# Altium integrated library Analog Devices Operational Amplifiers.IntLib: 2102 symbols (part 15 of 70)
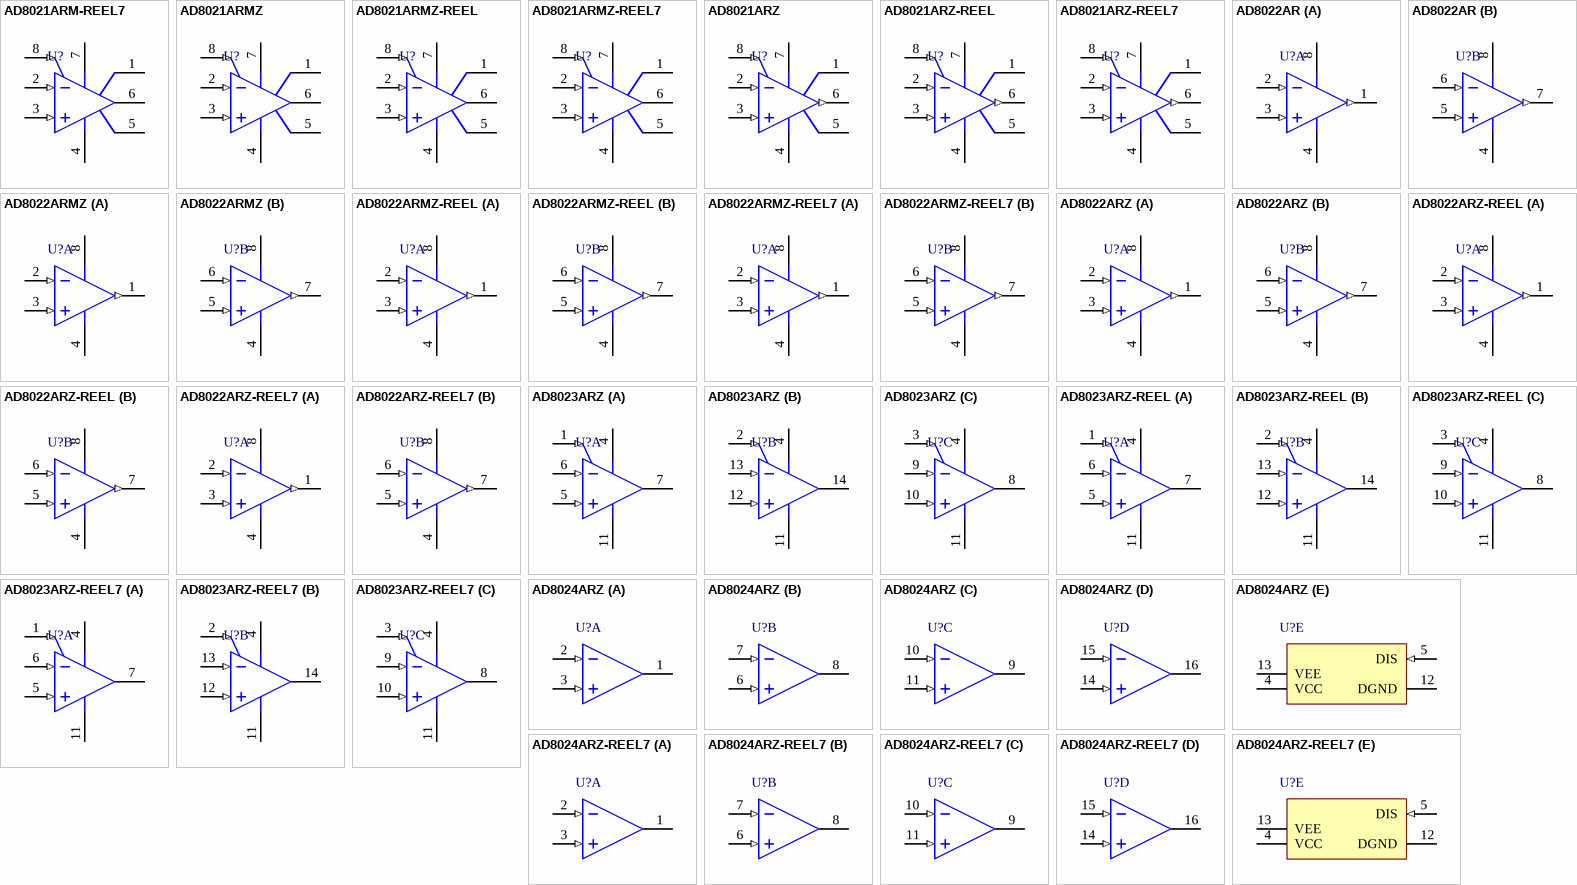
[diagram p128: symbols AD8021ARM-REEL7 to AD8024ARZ-REEL7]

## AD8024ARZ-REEL7
designator U?
Quad Channel Low Power Operational Amplifier, 200 MHz BW, 390 V/us SR, Industrial, 16-pin SOIC (R-16), Reel; Generic Part Number: AD8024; Manufacturer: Analog Devices; PartNumber: AD8024ARZ-REEL7; Amplifiers Per Package: 4; Input Bias Current: 1uA; Input Offset Voltage: 2mV; Iq/Amp: 17mA; Small Signal Bandwidth: 200MHz; V Span Max: 24V; V Span Min: 5V; DatasheetVersion: Rev. C; PackageVersion: 060606-A; PackageReference: R-16; PackageDescription: 16-Pin Standard Small Outline Package, Body 9.9 x 3.9 mm, Pitch 1.27 mm; Supplier 1: Digi-Key; Supplier Part Number 1: AD8024ARZ-REEL7-ND; Slew Rate: 390V/us; Mounting Technology: Surface Mount; Code_JEDEC: MS-012-AC; ComponentLink1Description: Manufacturer URL; ComponentLink1URL: http://www.analog.com/en/index.html; ComponentLink2Description: Datasheet; ComponentLink2URL: http://www.analog.com/static/imported-files/data_sheets/AD8024.pdf; ComponentLink3Description: Package Specification; ComponentLink3URL: http://www.analog.com/static/imported-files/packages/PKG_PDF/SOIC_Narrow%20(R)/R_16.pdf
footprint ADI-R-16_N (SOIC, 16-Leads, Body 9.9x3.9mm, Pitch 1.27mm, IPC Medium Density)
footprint ADI-R-16_L (SOIC, 16-Leads, Body 9.9x3.9mm, Pitch 1.27mm, IPC High Density)
footprint ADI-R-16_M (SOIC, 16-Leads, Body 9.9x3.9mm, Pitch 1.27mm,IPC Low Density)
part A pins: 1 OUT A (hiz), 2 -IN A (in), 3 +IN A (in)
part B pins: 6 +IN B (in), 7 -IN B (in), 8 OUT B (hiz)
part C pins: 9 OUT C (hiz), 10 -IN C (in), 11 +IN C (in)
part D pins: 14 +IN D (in), 15 -IN D (in), 16 OUT D (hiz)
part E pins: 4 VCC (power), 5 DIS (in), 12 DGND (power), 13 VEE (power)

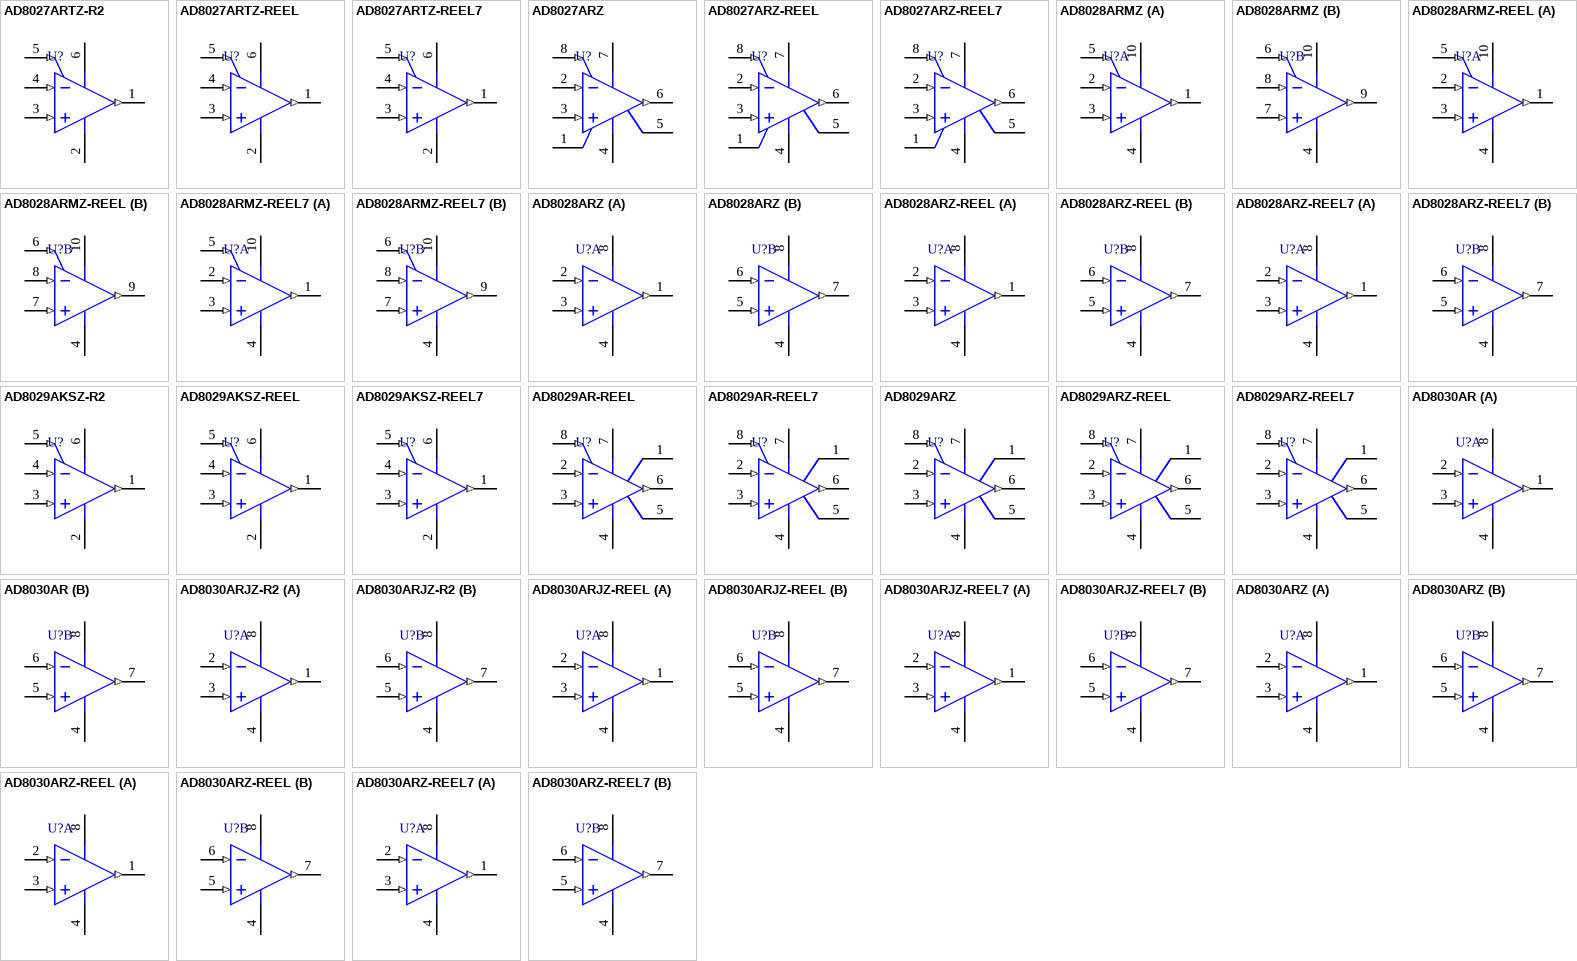
[diagram p22: symbols AD8027ARTZ-R2 to AD8030ARZ-REEL7]

## AD8027ARTZ-R2
designator U?
Single Channel Low Power Operational Amplifier, 190 MHz BW, 100 V/us SR, Industrial, 6-pin SOT23 (RJ-6), Reel; Generic Part Number: AD8027; Manufacturer: Analog Devices; PartNumber: AD8027ARTZ-R2; Amplifiers Per Package: 1; Input Bias Current: 3.8uA; Input Offset Voltage: 200uV; Iq/Amp: 8.5mA; Small Signal Bandwidth: 190MHz; V Span Max: 12V; V Span Min: 2.7V; DatasheetVersion: Rev. C; PackageVersion: 121608-A; PackageReference: RJ-6; PackageDescription: 6-Pin Small Outline Transistor Package, Body 2.9 x 1.6 mm, Pitch 0.95 mm; Supplier 1: Digi-Key; Supplier Part Number 1: AD8027ARTZ-R2CT-ND; Slew Rate: 100V/us; Mounting Technology: Surface Mount; Code_JEDEC: MO-178-AB; ComponentLink1Description: Manufacturer URL; ComponentLink1URL: http://www.analog.com/en/index.html; ComponentLink2Description: Datasheet; ComponentLink2URL: http://www.analog.com/static/imported-files/data_sheets/AD8027_8028.pdf; ComponentLink3Description: Package Specification; ComponentLink3URL: http://www.analog.com/static/imported-files/packages/PKG_PDF/SOT-23(RJ)/RJ_6.pdf
footprint ADI-RJ-6_N (SOT23, 6-Leads, Body 2.9x1.6mm, Pitch 0.95mm, IPC Medium Density)
footprint ADI-RJ-6_L (SOT23, 6-Leads, Body 2.9x1.6mm, Pitch 0.95mm, IPC High Density)
footprint ADI-RJ-6_M (SOT23, 6-Leads, Body 2.9x1.6mm, Pitch 0.95mm, IPC Low Density)
pins: 1 VOUT (out), 2 -VS (power), 3 +IN (in), 4 -IN (in), 5 ~{DISABLE}/SELECT (in), 6 +VS (power)

## AD8027ARTZ-REEL
designator U?
Single Channel Low Power Operational Amplifier, 190 MHz BW, 100 V/us SR, Industrial, 6-pin SOT23 (RJ-6), Reel; Generic Part Number: AD8027; Manufacturer: Analog Devices; PartNumber: AD8027ARTZ-REEL; Amplifiers Per Package: 1; Input Bias Current: 3.8uA; Input Offset Voltage: 200uV; Iq/Amp: 8.5mA; Small Signal Bandwidth: 190MHz; V Span Max: 12V; V Span Min: 2.7V; DatasheetVersion: Rev. C; PackageVersion: 121608-A; PackageReference: RJ-6; PackageDescription: 6-Pin Small Outline Transistor Package, Body 2.9 x 1.6 mm, Pitch 0.95 mm; Supplier 1: Digi-Key; Supplier Part Number 1: AD8027ARTZ-REEL-ND; Slew Rate: 100V/us; Mounting Technology: Surface Mount; Code_JEDEC: MO-178-AB; ComponentLink1Description: Manufacturer URL; ComponentLink1URL: http://www.analog.com/en/index.html; ComponentLink2Description: Datasheet; ComponentLink2URL: http://www.analog.com/static/imported-files/data_sheets/AD8027_8028.pdf; ComponentLink3Description: Package Specification; ComponentLink3URL: http://www.analog.com/static/imported-files/packages/PKG_PDF/SOT-23(RJ)/RJ_6.pdf
footprint ADI-RJ-6_N (SOT23, 6-Leads, Body 2.9x1.6mm, Pitch 0.95mm, IPC Medium Density)
footprint ADI-RJ-6_L (SOT23, 6-Leads, Body 2.9x1.6mm, Pitch 0.95mm, IPC High Density)
footprint ADI-RJ-6_M (SOT23, 6-Leads, Body 2.9x1.6mm, Pitch 0.95mm, IPC Low Density)
pins: 1 VOUT (out), 2 -VS (power), 3 +IN (in), 4 -IN (in), 5 ~{DISABLE}/SELECT (in), 6 +VS (power)

## AD8027ARTZ-REEL7
designator U?
Single Channel Low Power Operational Amplifier, 190 MHz BW, 100 V/us SR, Industrial, 6-pin SOT23 (RJ-6), Reel; Generic Part Number: AD8027; Manufacturer: Analog Devices; PartNumber: AD8027ARTZ-REEL7; Amplifiers Per Package: 1; Input Bias Current: 3.8uA; Input Offset Voltage: 200uV; Iq/Amp: 8.5mA; Small Signal Bandwidth: 190MHz; V Span Max: 12V; V Span Min: 2.7V; DatasheetVersion: Rev. C; PackageVersion: 121608-A; PackageReference: RJ-6; PackageDescription: 6-Pin Small Outline Transistor Package, Body 2.9 x 1.6 mm, Pitch 0.95 mm; Supplier 1: Digi-Key; Supplier Part Number 1: AD8027ARTZ-REEL7TR-ND; Supplier 2: Digi-Key; Supplier Part Number 2: AD8027ARTZ-REEL7CT-ND; Supplier 3: Digi-Key; Supplier Part Number 3: AD8027ARTZ-REEL7DKR-ND; Supplier 4: Newark; Supplier Part Number 4: 59K6207; Slew Rate: 100V/us; Mounting Technology: Surface Mount; Code_JEDEC: MO-178-AB; ComponentLink1Description: Manufacturer URL; ComponentLink1URL: http://www.analog.com/en/index.html; ComponentLink2Description: Datasheet; ComponentLink2URL: http://www.analog.com/static/imported-files/data_sheets/AD8027_8028.pdf; ComponentLink3Description: Package Specification; ComponentLink3URL: http://www.analog.com/static/imported-files/packages/PKG_PDF/SOT-23(RJ)/RJ_6.pdf
footprint ADI-RJ-6_N (SOT23, 6-Leads, Body 2.9x1.6mm, Pitch 0.95mm, IPC Medium Density)
footprint ADI-RJ-6_L (SOT23, 6-Leads, Body 2.9x1.6mm, Pitch 0.95mm, IPC High Density)
footprint ADI-RJ-6_M (SOT23, 6-Leads, Body 2.9x1.6mm, Pitch 0.95mm, IPC Low Density)
pins: 1 VOUT (out), 2 -VS (power), 3 +IN (in), 4 -IN (in), 5 ~{DISABLE}/SELECT (in), 6 +VS (power)

## AD8027ARZ
designator U?
Single Channel Low Power Operational Amplifier, 190 MHz BW, 100 V/us SR, Industrial, 8-pin SOIC (R-8), Tube; Generic Part Number: AD8027; Manufacturer: Analog Devices; PartNumber: AD8027ARZ; Amplifiers Per Package: 1; Input Bias Current: 3.8uA; Input Offset Voltage: 200uV; Iq/Amp: 8.5mA; Small Signal Bandwidth: 190MHz; V Span Max: 12V; V Span Min: 2.7V; DatasheetVersion: Rev. C; PackageVersion: 060506-A; PackageReference: R-8; PackageDescription: 8-Pin Standard Small Outline Package, Body 3.9 x 4.9 mm, Pitch 1.27 mm; Supplier 1: Digi-Key; Supplier Part Number 1: AD8027ARZ-ND; Supplier 2: Farnell; Supplier Part Number 2: 1660971; Supplier 3: Newark; Supplier Part Number 3: 19M8873; Slew Rate: 100V/us; Mounting Technology: Surface Mount; Code_JEDEC: MS-012-AA; ComponentLink1Description: Manufacturer URL; ComponentLink1URL: http://www.analog.com/en/index.html; ComponentLink2Description: Datasheet; ComponentLink2URL: http://www.analog.com/static/imported-files/data_sheets/AD8027_8028.pdf; ComponentLink3Description: Package Specification; ComponentLink3URL: http://www.analog.com/static/imported-files/packages/PKG_PDF/SOIC_Narrow%20(R)/R_8.pdf
footprint ADI-R-8_N (SOIC, 8-Leads, Body 4.9x3.9mm, Pitch 1.27mm, IPC Medium Density)
footprint ADI-R-8_L (SOIC, 8-Leads, Body 4.9x3.9mm, Pitch 1.27mm, IPC High Density)
footprint ADI-R-8_M (SOIC, 8-Leads, Body 4.9x3.9mm, Pitch 1.27mm, IPC Low Density)
pins: 1 NC, 2 -IN (in), 3 +IN (in), 4 -VS (power), 5 NC, 6 VOUT (out), 7 +VS (power), 8 ~{DISABLE}/SELECT (in)

## AD8027ARZ-REEL
designator U?
Single Channel Low Power Operational Amplifier, 190 MHz BW, 100 V/us SR, Industrial, 8-pin SOIC (R-8), Reel; Generic Part Number: AD8027; Manufacturer: Analog Devices; PartNumber: AD8027ARZ-REEL; Amplifiers Per Package: 1; Input Bias Current: 3.8uA; Input Offset Voltage: 200uV; Iq/Amp: 8.5mA; Small Signal Bandwidth: 190MHz; V Span Max: 12V; V Span Min: 2.7V; DatasheetVersion: Rev. C; PackageVersion: 060506-A; PackageReference: R-8; PackageDescription: 8-Pin Standard Small Outline Package, Body 3.9 x 4.9 mm, Pitch 1.27 mm; Supplier 1: Digi-Key; Supplier Part Number 1: AD8027ARZ-REEL-ND; Slew Rate: 100V/us; Mounting Technology: Surface Mount; Code_JEDEC: MS-012-AA; ComponentLink1Description: Manufacturer URL; ComponentLink1URL: http://www.analog.com/en/index.html; ComponentLink2Description: Datasheet; ComponentLink2URL: http://www.analog.com/static/imported-files/data_sheets/AD8027_8028.pdf; ComponentLink3Description: Package Specification; ComponentLink3URL: http://www.analog.com/static/imported-files/packages/PKG_PDF/SOIC_Narrow%20(R)/R_8.pdf
footprint ADI-R-8_N (SOIC, 8-Leads, Body 4.9x3.9mm, Pitch 1.27mm, IPC Medium Density)
footprint ADI-R-8_L (SOIC, 8-Leads, Body 4.9x3.9mm, Pitch 1.27mm, IPC High Density)
footprint ADI-R-8_M (SOIC, 8-Leads, Body 4.9x3.9mm, Pitch 1.27mm, IPC Low Density)
pins: 1 NC, 2 -IN (in), 3 +IN (in), 4 -VS (power), 5 NC, 6 VOUT (out), 7 +VS (power), 8 ~{DISABLE}/SELECT (in)

## AD8027ARZ-REEL7
designator U?
Single Channel Low Power Operational Amplifier, 190 MHz BW, 100 V/us SR, Industrial, 8-pin SOIC (R-8), Reel; Generic Part Number: AD8027; Manufacturer: Analog Devices; PartNumber: AD8027ARZ-REEL7; Amplifiers Per Package: 1; Input Bias Current: 3.8uA; Input Offset Voltage: 200uV; Iq/Amp: 8.5mA; Small Signal Bandwidth: 190MHz; V Span Max: 12V; V Span Min: 2.7V; DatasheetVersion: Rev. C; PackageVersion: 060506-A; PackageReference: R-8; PackageDescription: 8-Pin Standard Small Outline Package, Body 3.9 x 4.9 mm, Pitch 1.27 mm; Supplier 1: Digi-Key; Supplier Part Number 1: AD8027ARZ-REEL7-ND; Slew Rate: 100V/us; Mounting Technology: Surface Mount; Code_JEDEC: MS-012-AA; ComponentLink1Description: Manufacturer URL; ComponentLink1URL: http://www.analog.com/en/index.html; ComponentLink2Description: Datasheet; ComponentLink2URL: http://www.analog.com/static/imported-files/data_sheets/AD8027_8028.pdf; ComponentLink3Description: Package Specification; ComponentLink3URL: http://www.analog.com/static/imported-files/packages/PKG_PDF/SOIC_Narrow%20(R)/R_8.pdf
footprint ADI-R-8_N (SOIC, 8-Leads, Body 4.9x3.9mm, Pitch 1.27mm, IPC Medium Density)
footprint ADI-R-8_L (SOIC, 8-Leads, Body 4.9x3.9mm, Pitch 1.27mm, IPC High Density)
footprint ADI-R-8_M (SOIC, 8-Leads, Body 4.9x3.9mm, Pitch 1.27mm, IPC Low Density)
pins: 1 NC, 2 -IN (in), 3 +IN (in), 4 -VS (power), 5 NC, 6 VOUT (out), 7 +VS (power), 8 ~{DISABLE}/SELECT (in)

## AD8028ARMZ
designator U?
Double Channel Low Power Operational Amplifier, 190 MHz BW, 100 V/us SR, Industrial, 10-pin SOP (RM-10), Tube; Generic Part Number: AD8028; Manufacturer: Analog Devices; PartNumber: AD8028ARMZ; Amplifiers Per Package: 2; Input Bias Current: 4uA; Input Offset Voltage: 200uV; Iq/Amp: 8.5mA; Small Signal Bandwidth: 190MHz; V Span Max: 12V; V Span Min: 2.7V; DatasheetVersion: Rev. C; PackageReference: RM-10; PackageDescription: 10-Pin Mini Small Outline Package, Body 3 x 3 mm, Pitch 0.5 mm; Supplier 1: Digi-Key; Supplier Part Number 1: AD8028ARMZ-ND; Supplier 2: Newark; Supplier Part Number 2: 59K6213; Slew Rate: 100V/us; Mounting Technology: Surface Mount; Code_JEDEC: MO-187-BA; ComponentLink1Description: Manufacturer URL; ComponentLink1URL: http://www.analog.com/en/index.html; ComponentLink2Description: Datasheet; ComponentLink2URL: http://www.analog.com/static/imported-files/data_sheets/AD8027_8028.pdf; ComponentLink3Description: Package Specification; ComponentLink3URL: http://www.analog.com/static/imported-files/packages/PKG_PDF/MSOP%28RM%29/RM_10.pdf
footprint ADI-RM-10_N (SOP, 10-Leads, Body 3x3mm, Pitch 0.5mm, IPC Medium Density)
footprint ADI-RM-10_L (SOP, 10-Leads, Body 3x3mm, Pitch 0.5mm, IPC High Density)
footprint ADI-RM-10_M (SOP, 10-Leads, Body 3x3mm, Pitch 0.5mm, IPC Low Density)
pins on every part: 4 -VS (power), 10 +VS (power)
part A pins: 1 VOUT A (out), 2 -IN A (in), 3 +IN A (in), 5 ~{DISABLE}/SELECT A (in)
part B pins: 6 ~{DISABLE}/SELECT B (in), 7 +IN B (in), 8 -IN B (in), 9 VOUT B (out)

## AD8028ARMZ-REEL
designator U?
Double Channel Low Power Operational Amplifier, 190 MHz BW, 100 V/us SR, Industrial, 10-pin SOP (RM-10), Reel; Generic Part Number: AD8028; Manufacturer: Analog Devices; PartNumber: AD8028ARMZ-REEL; Amplifiers Per Package: 2; Input Bias Current: 4uA; Input Offset Voltage: 200uV; Iq/Amp: 8.5mA; Small Signal Bandwidth: 190MHz; V Span Max: 12V; V Span Min: 2.7V; DatasheetVersion: Rev. C; PackageReference: RM-10; PackageDescription: 10-Pin Mini Small Outline Package, Body 3 x 3 mm, Pitch 0.5 mm; Supplier 1: Digi-Key; Supplier Part Number 1: AD8028ARMZ-REEL-ND; Slew Rate: 100V/us; Mounting Technology: Surface Mount; Code_JEDEC: MO-187-BA; ComponentLink1Description: Manufacturer URL; ComponentLink1URL: http://www.analog.com/en/index.html; ComponentLink2Description: Datasheet; ComponentLink2URL: http://www.analog.com/static/imported-files/data_sheets/AD8027_8028.pdf; ComponentLink3Description: Package Specification; ComponentLink3URL: http://www.analog.com/static/imported-files/packages/PKG_PDF/MSOP%28RM%29/RM_10.pdf
footprint ADI-RM-10_N (SOP, 10-Leads, Body 3x3mm, Pitch 0.5mm, IPC Medium Density)
footprint ADI-RM-10_L (SOP, 10-Leads, Body 3x3mm, Pitch 0.5mm, IPC High Density)
footprint ADI-RM-10_M (SOP, 10-Leads, Body 3x3mm, Pitch 0.5mm, IPC Low Density)
pins on every part: 4 -VS (power), 10 +VS (power)
part A pins: 1 VOUT A (out), 2 -IN A (in), 3 +IN A (in), 5 ~{DISABLE}/SELECT A (in)
part B pins: 6 ~{DISABLE}/SELECT B (in), 7 +IN B (in), 8 -IN B (in), 9 VOUT B (out)

## AD8028ARMZ-REEL7
designator U?
Double Channel Low Power Operational Amplifier, 190 MHz BW, 100 V/us SR, Industrial, 10-pin SOP (RM-10), Reel; Generic Part Number: AD8028; Manufacturer: Analog Devices; PartNumber: AD8028ARMZ-REEL7; Amplifiers Per Package: 2; Input Bias Current: 4uA; Input Offset Voltage: 200uV; Iq/Amp: 8.5mA; Small Signal Bandwidth: 190MHz; V Span Max: 12V; V Span Min: 2.7V; DatasheetVersion: Rev. C; PackageReference: RM-10; PackageDescription: 10-Pin Mini Small Outline Package, Body 3 x 3 mm, Pitch 0.5 mm; Supplier 1: Digi-Key; Supplier Part Number 1: AD8028ARMZ-REEL7-ND; Slew Rate: 100V/us; Mounting Technology: Surface Mount; Code_JEDEC: MO-187-BA; ComponentLink1Description: Manufacturer URL; ComponentLink1URL: http://www.analog.com/en/index.html; ComponentLink2Description: Datasheet; ComponentLink2URL: http://www.analog.com/static/imported-files/data_sheets/AD8027_8028.pdf; ComponentLink3Description: Package Specification; ComponentLink3URL: http://www.analog.com/static/imported-files/packages/PKG_PDF/MSOP%28RM%29/RM_10.pdf
footprint ADI-RM-10_N (SOP, 10-Leads, Body 3x3mm, Pitch 0.5mm, IPC Medium Density)
footprint ADI-RM-10_L (SOP, 10-Leads, Body 3x3mm, Pitch 0.5mm, IPC High Density)
footprint ADI-RM-10_M (SOP, 10-Leads, Body 3x3mm, Pitch 0.5mm, IPC Low Density)
pins on every part: 4 -VS (power), 10 +VS (power)
part A pins: 1 VOUT A (out), 2 -IN A (in), 3 +IN A (in), 5 ~{DISABLE}/SELECT A (in)
part B pins: 6 ~{DISABLE}/SELECT B (in), 7 +IN B (in), 8 -IN B (in), 9 VOUT B (out)

## AD8028ARZ
designator U?
Double Channel Low Power Operational Amplifier, 190 MHz BW, 100 V/us SR, Industrial, 8-pin SOIC (R-8), Tube; Generic Part Number: AD8028; Manufacturer: Analog Devices; PartNumber: AD8028ARZ; Amplifiers Per Package: 2; Input Bias Current: 4uA; Input Offset Voltage: 200uV; Iq/Amp: 8.5mA; Small Signal Bandwidth: 190MHz; V Span Max: 12V; V Span Min: 2.7V; DatasheetVersion: Rev. C; PackageVersion: 060506-A; PackageReference: R-8; PackageDescription: 8-Pin Standard Small Outline Package, Body 3.9 x 4.9 mm, Pitch 1.27 mm; Supplier 1: Digi-Key; Supplier Part Number 1: AD8028ARZ-ND; Supplier 2: Farnell; Supplier Part Number 2: 1581947; Supplier 3: Newark; Supplier Part Number 3: 19M0915; Slew Rate: 100V/us; Mounting Technology: Surface Mount; Code_JEDEC: MS-012-AA; ComponentLink1Description: Manufacturer URL; ComponentLink1URL: http://www.analog.com/en/index.html; ComponentLink2Description: Datasheet; ComponentLink2URL: http://www.analog.com/static/imported-files/data_sheets/AD8027_8028.pdf; ComponentLink3Description: Package Specification; ComponentLink3URL: http://www.analog.com/static/imported-files/packages/PKG_PDF/SOIC_Narrow%20(R)/R_8.pdf
footprint ADI-R-8_N (SOIC, 8-Leads, Body 4.9x3.9mm, Pitch 1.27mm, IPC Medium Density)
footprint ADI-R-8_L (SOIC, 8-Leads, Body 4.9x3.9mm, Pitch 1.27mm, IPC High Density)
footprint ADI-R-8_M (SOIC, 8-Leads, Body 4.9x3.9mm, Pitch 1.27mm, IPC Low Density)
pins on every part: 4 -VS (power), 8 +VS (power)
part A pins: 1 VOUT A (out), 2 -IN A (in), 3 +IN A (in)
part B pins: 5 +IN B (in), 6 -IN B (in), 7 VOUT B (out)

## AD8028ARZ-REEL
designator U?
Double Channel Low Power Operational Amplifier, 190 MHz BW, 100 V/us SR, Industrial, 8-pin SOIC (R-8), Reel; Generic Part Number: AD8028; Manufacturer: Analog Devices; PartNumber: AD8028ARZ-REEL; Amplifiers Per Package: 2; Input Bias Current: 4uA; Input Offset Voltage: 200uV; Iq/Amp: 8.5mA; Small Signal Bandwidth: 190MHz; V Span Max: 12V; V Span Min: 2.7V; DatasheetVersion: Rev. C; PackageVersion: 060506-A; PackageReference: R-8; PackageDescription: 8-Pin Standard Small Outline Package, Body 3.9 x 4.9 mm, Pitch 1.27 mm; Supplier 1: Digi-Key; Supplier Part Number 1: AD8028ARZ-REEL-ND; Slew Rate: 100V/us; Mounting Technology: Surface Mount; Code_JEDEC: MS-012-AA; ComponentLink1Description: Manufacturer URL; ComponentLink1URL: http://www.analog.com/en/index.html; ComponentLink2Description: Datasheet; ComponentLink2URL: http://www.analog.com/static/imported-files/data_sheets/AD8027_8028.pdf; ComponentLink3Description: Package Specification; ComponentLink3URL: http://www.analog.com/static/imported-files/packages/PKG_PDF/SOIC_Narrow%20(R)/R_8.pdf
footprint ADI-R-8_N (SOIC, 8-Leads, Body 4.9x3.9mm, Pitch 1.27mm, IPC Medium Density)
footprint ADI-R-8_L (SOIC, 8-Leads, Body 4.9x3.9mm, Pitch 1.27mm, IPC High Density)
footprint ADI-R-8_M (SOIC, 8-Leads, Body 4.9x3.9mm, Pitch 1.27mm, IPC Low Density)
pins on every part: 4 -VS (power), 8 +VS (power)
part A pins: 1 VOUT A (out), 2 -IN A (in), 3 +IN A (in)
part B pins: 5 +IN B (in), 6 -IN B (in), 7 VOUT B (out)

## AD8028ARZ-REEL7
designator U?
Double Channel Low Power Operational Amplifier, 190 MHz BW, 100 V/us SR, Industrial, 8-pin SOIC (R-8), Reel; Generic Part Number: AD8028; Manufacturer: Analog Devices; PartNumber: AD8028ARZ-REEL7; Amplifiers Per Package: 2; Input Bias Current: 4uA; Input Offset Voltage: 200uV; Iq/Amp: 8.5mA; Small Signal Bandwidth: 190MHz; V Span Max: 12V; V Span Min: 2.7V; DatasheetVersion: Rev. C; PackageVersion: 060506-A; PackageReference: R-8; PackageDescription: 8-Pin Standard Small Outline Package, Body 3.9 x 4.9 mm, Pitch 1.27 mm; Supplier 1: Digi-Key; Supplier Part Number 1: AD8028ARZ-REEL7TR-ND; Supplier 2: Digi-Key; Supplier Part Number 2: AD8028ARZ-REEL7CT-ND; Supplier 3: Newark; Supplier Part Number 3: 59K6218; Slew Rate: 100V/us; Mounting Technology: Surface Mount; Code_JEDEC: MS-012-AA; ComponentLink1Description: Manufacturer URL; ComponentLink1URL: http://www.analog.com/en/index.html; ComponentLink2Description: Datasheet; ComponentLink2URL: http://www.analog.com/static/imported-files/data_sheets/AD8027_8028.pdf; ComponentLink3Description: Package Specification; ComponentLink3URL: http://www.analog.com/static/imported-files/packages/PKG_PDF/SOIC_Narrow%20(R)/R_8.pdf
footprint ADI-R-8_N (SOIC, 8-Leads, Body 4.9x3.9mm, Pitch 1.27mm, IPC Medium Density)
footprint ADI-R-8_L (SOIC, 8-Leads, Body 4.9x3.9mm, Pitch 1.27mm, IPC High Density)
footprint ADI-R-8_M (SOIC, 8-Leads, Body 4.9x3.9mm, Pitch 1.27mm, IPC Low Density)
pins on every part: 4 -VS (power), 8 +VS (power)
part A pins: 1 VOUT A (out), 2 -IN A (in), 3 +IN A (in)
part B pins: 5 +IN B (in), 6 -IN B (in), 7 VOUT B (out)

## AD8029AKSZ-R2
designator U?
Single Channel RRIO Operational Amplifier, 125 MHz BW, 62 V/us SR, Industrial, 6-pin SOT23 (KS-6), Reel; Generic Part Number: AD8029; Manufacturer: Analog Devices; PartNumber: AD8029AKSZ-R2; Amplifiers Per Package: 1; Input Bias Current: 700nA; Input Offset Voltage: 1.6mV; Iq/Amp: 1.5mA; Slew Rate: 62V/us; Small Signal Bandwidth: 125MHz; V Span Max: 12V; V Span Min: 2.7V; DatasheetVersion: Rev. B; PackageVersion: 072809-A; PackageReference: KS-6; PackageDescription: 6-Pin Thin Shrink Small Outline Transistor Package, Body 2 x 1.25 mm, Pitch 0.65 mm; Supplier 1: Digi-Key; Supplier Part Number 1: AD8029AKSZ-R2CT-ND; Supplier 2: Newark; Supplier Part Number 2: 59K6221; Mounting Technology: Surface Mount; Code_JEDEC: MO-203-AB; ComponentLink1Description: Manufacturer URL; ComponentLink1URL: http://www.analog.com/en/index.html; ComponentLink2Description: Datasheet; ComponentLink2URL: http://www.analog.com/static/imported-files/data_sheets/AD8029_8030_8040.pdf; ComponentLink3Description: Package Specification; ComponentLink3URL: http://www.analog.com/static/imported-files/packages/PKG_PDF/SC70(KS)/KS_6.pdf
footprint ADI-KS-6_N (SOT23, 6-Leads, Body 2x1.25mm, Pitch 0.65mm, IPC Medium Density)
footprint ADI-KS-6_L (SOT23, 6-Leads, Body 2x1.25mm, Pitch 0.65mm, IPC High Density)
footprint ADI-KS-6_M (SOT23, 6-Leads, Body 2x1.25mm, Pitch 0.65mm, IPC Low Density)
pins: 1 VOUT (out), 2 -VS (power), 3 +IN (in), 4 -IN (in), 5 ~{DISABLE} (in), 6 +VS (power)

## AD8029AKSZ-REEL
designator U?
Single Channel RRIO Operational Amplifier, 125 MHz BW, 62 V/us SR, Automotive, 6-pin SOT23 (KS-6), Reel; Generic Part Number: AD8029; Manufacturer: Analog Devices; PartNumber: AD8029AKSZ-REEL; Amplifiers Per Package: 1; Input Bias Current: 700nA; Input Offset Voltage: 1.6mV; Iq/Amp: 1.5mA; Slew Rate: 62V/us; Small Signal Bandwidth: 125MHz; V Span Max: 12V; V Span Min: 2.7V; DatasheetVersion: Rev. B; PackageVersion: 072809-A; PackageReference: KS-6; PackageDescription: 6-Pin Thin Shrink Small Outline Transistor Package, Body 2 x 1.25 mm, Pitch 0.65 mm; Supplier 1: Digi-Key; Supplier Part Number 1: AD8029AKSZ-REEL-ND; Supplier 2: Newark; Supplier Part Number 2: 59K6219; Mounting Technology: Surface Mount; Code_JEDEC: MO-203-AB; ComponentLink1Description: Manufacturer URL; ComponentLink1URL: http://www.analog.com/en/index.html; ComponentLink2Description: Datasheet; ComponentLink2URL: http://www.analog.com/static/imported-files/data_sheets/AD8029_8030_8040.pdf; ComponentLink3Description: Package Specification; ComponentLink3URL: http://www.analog.com/static/imported-files/packages/PKG_PDF/SC70(KS)/KS_6.pdf
footprint ADI-KS-6_N (SOT23, 6-Leads, Body 2x1.25mm, Pitch 0.65mm, IPC Medium Density)
footprint ADI-KS-6_L (SOT23, 6-Leads, Body 2x1.25mm, Pitch 0.65mm, IPC High Density)
footprint ADI-KS-6_M (SOT23, 6-Leads, Body 2x1.25mm, Pitch 0.65mm, IPC Low Density)
pins: 1 VOUT (out), 2 -VS (power), 3 +IN (in), 4 -IN (in), 5 ~{DISABLE} (in), 6 +VS (power)

## AD8029AKSZ-REEL7
designator U?
Single Channel RRIO Operational Amplifier, 125 MHz BW, 62 V/us SR, Automotive, 6-pin SOT23 (KS-6), Reel; Generic Part Number: AD8029; Manufacturer: Analog Devices; PartNumber: AD8029AKSZ-REEL7; Amplifiers Per Package: 1; Input Bias Current: 700nA; Input Offset Voltage: 1.6mV; Iq/Amp: 1.5mA; Slew Rate: 62V/us; Small Signal Bandwidth: 125MHz; V Span Max: 12V; V Span Min: 2.7V; DatasheetVersion: Rev. B; PackageVersion: 072809-A; PackageReference: KS-6; PackageDescription: 6-Pin Thin Shrink Small Outline Transistor Package, Body 2 x 1.25 mm, Pitch 0.65 mm; Supplier 1: Digi-Key; Supplier Part Number 1: AD8029AKSZ-REEL7TR-ND; Supplier 2: Digi-Key; Supplier Part Number 2: AD8029AKSZ-REEL7CT-ND; Supplier 3: Digi-Key; Supplier Part Number 3: AD8029AKSZ-REEL7DKR-ND; Supplier 4: Newark; Supplier Part Number 4: 59K6220; Mounting Technology: Surface Mount; Code_JEDEC: MO-203-AB; ComponentLink1Description: Manufacturer URL; ComponentLink1URL: http://www.analog.com/en/index.html; ComponentLink2Description: Datasheet; ComponentLink2URL: http://www.analog.com/static/imported-files/data_sheets/AD8029_8030_8040.pdf; ComponentLink3Description: Package Specification; ComponentLink3URL: http://www.analog.com/static/imported-files/packages/PKG_PDF/SC70(KS)/KS_6.pdf
footprint ADI-KS-6_N (SOT23, 6-Leads, Body 2x1.25mm, Pitch 0.65mm, IPC Medium Density)
footprint ADI-KS-6_L (SOT23, 6-Leads, Body 2x1.25mm, Pitch 0.65mm, IPC High Density)
footprint ADI-KS-6_M (SOT23, 6-Leads, Body 2x1.25mm, Pitch 0.65mm, IPC Low Density)
pins: 1 VOUT (out), 2 -VS (power), 3 +IN (in), 4 -IN (in), 5 ~{DISABLE} (in), 6 +VS (power)

## AD8029AR-REEL
designator U?
Single Channel RRIO Operational Amplifier, 125 MHz BW, 62 V/us SR, Industrial, 8-pin SOIC (R-8), Reel; Generic Part Number: AD8029; Manufacturer: Analog Devices; PartNumber: AD8029AR-REEL; Amplifiers Per Package: 1; Input Bias Current: 700nA; Input Offset Voltage: 1.6mV; Iq/Amp: 1.5mA; Slew Rate: 62V/us; Small Signal Bandwidth: 125MHz; V Span Max: 12V; V Span Min: 2.7V; DatasheetVersion: Rev. B; PackageVersion: 060506-A; PackageReference: R-8; PackageDescription: 8-Pin Standard Small Outline Package, Body 3.9 x 4.9 mm, Pitch 1.27 mm; Mounting Technology: Surface Mount; Code_JEDEC: MS-012-AA; ComponentLink1Description: Manufacturer URL; ComponentLink1URL: http://www.analog.com/en/index.html; ComponentLink2Description: Datasheet; ComponentLink2URL: http://www.analog.com/static/imported-files/data_sheets/AD8029_8030_8040.pdf; ComponentLink3Description: Package Specification; ComponentLink3URL: http://www.analog.com/static/imported-files/packages/PKG_PDF/SOIC_Narrow%20(R)/R_8.pdf
footprint ADI-R-8_N (SOIC, 8-Leads, Body 4.9x3.9mm, Pitch 1.27mm, IPC Medium Density)
footprint ADI-R-8_L (SOIC, 8-Leads, Body 4.9x3.9mm, Pitch 1.27mm, IPC High Density)
footprint ADI-R-8_M (SOIC, 8-Leads, Body 4.9x3.9mm, Pitch 1.27mm, IPC Low Density)
pins: 1 NC, 2 -IN (in), 3 +IN (in), 4 -VS (power), 5 NC, 6 VOUT (out), 7 +VS (power), 8 ~{DISABLE} (in)

## AD8029AR-REEL7
designator U?
Single Channel RRIO Operational Amplifier, 125 MHz BW, 62 V/us SR, Industrial, 8-pin SOIC (R-8), Reel; Generic Part Number: AD8029; Manufacturer: Analog Devices; PartNumber: AD8029AR-REEL7; Amplifiers Per Package: 1; Input Bias Current: 700nA; Input Offset Voltage: 1.6mV; Iq/Amp: 1.5mA; Slew Rate: 62V/us; Small Signal Bandwidth: 125MHz; V Span Max: 12V; V Span Min: 2.7V; DatasheetVersion: Rev. B; PackageVersion: 060506-A; PackageReference: R-8; PackageDescription: 8-Pin Standard Small Outline Package, Body 3.9 x 4.9 mm, Pitch 1.27 mm; Mounting Technology: Surface Mount; Code_JEDEC: MS-012-AA; ComponentLink1Description: Manufacturer URL; ComponentLink1URL: http://www.analog.com/en/index.html; ComponentLink2Description: Datasheet; ComponentLink2URL: http://www.analog.com/static/imported-files/data_sheets/AD8029_8030_8040.pdf; ComponentLink3Description: Package Specification; ComponentLink3URL: http://www.analog.com/static/imported-files/packages/PKG_PDF/SOIC_Narrow%20(R)/R_8.pdf
footprint ADI-R-8_N (SOIC, 8-Leads, Body 4.9x3.9mm, Pitch 1.27mm, IPC Medium Density)
footprint ADI-R-8_L (SOIC, 8-Leads, Body 4.9x3.9mm, Pitch 1.27mm, IPC High Density)
footprint ADI-R-8_M (SOIC, 8-Leads, Body 4.9x3.9mm, Pitch 1.27mm, IPC Low Density)
pins: 1 NC, 2 -IN (in), 3 +IN (in), 4 -VS (power), 5 NC, 6 VOUT (out), 7 +VS (power), 8 ~{DISABLE} (in)

## AD8029ARZ
designator U?
Single Channel RRIO Operational Amplifier, 125 MHz BW, 62 V/us SR, Industrial, 8-pin SOIC (R-8), Tube; Generic Part Number: AD8029; Manufacturer: Analog Devices; PartNumber: AD8029ARZ; Amplifiers Per Package: 1; Input Bias Current: 700nA; Input Offset Voltage: 1.6mV; Iq/Amp: 1.5mA; Slew Rate: 62V/us; Small Signal Bandwidth: 125MHz; V Span Max: 12V; V Span Min: 2.7V; DatasheetVersion: Rev. B; PackageVersion: 060506-A; PackageReference: R-8; PackageDescription: 8-Pin Standard Small Outline Package, Body 3.9 x 4.9 mm, Pitch 1.27 mm; Supplier 1: Digi-Key; Supplier Part Number 1: AD8029ARZ-ND; Supplier 2: Newark; Supplier Part Number 2: 59K6222; Mounting Technology: Surface Mount; Code_JEDEC: MS-012-AA; ComponentLink1Description: Manufacturer URL; ComponentLink1URL: http://www.analog.com/en/index.html; ComponentLink2Description: Datasheet; ComponentLink2URL: http://www.analog.com/static/imported-files/data_sheets/AD8029_8030_8040.pdf; ComponentLink3Description: Package Specification; ComponentLink3URL: http://www.analog.com/static/imported-files/packages/PKG_PDF/SOIC_Narrow%20(R)/R_8.pdf
footprint ADI-R-8_N (SOIC, 8-Leads, Body 4.9x3.9mm, Pitch 1.27mm, IPC Medium Density)
footprint ADI-R-8_L (SOIC, 8-Leads, Body 4.9x3.9mm, Pitch 1.27mm, IPC High Density)
footprint ADI-R-8_M (SOIC, 8-Leads, Body 4.9x3.9mm, Pitch 1.27mm, IPC Low Density)
pins: 1 NC, 2 -IN (in), 3 +IN (in), 4 -VS (power), 5 NC, 6 VOUT (out), 7 +VS (power), 8 ~{DISABLE} (in)

## AD8029ARZ-REEL
designator U?
Single Channel RRIO Operational Amplifier, 125 MHz BW, 62 V/us SR, Industrial, 8-pin SOIC (R-8), Reel; Generic Part Number: AD8029; Manufacturer: Analog Devices; PartNumber: AD8029ARZ-REEL; Amplifiers Per Package: 1; Input Bias Current: 700nA; Input Offset Voltage: 1.6mV; Iq/Amp: 1.5mA; Slew Rate: 62V/us; Small Signal Bandwidth: 125MHz; V Span Max: 12V; V Span Min: 2.7V; DatasheetVersion: Rev. B; PackageVersion: 060506-A; PackageReference: R-8; PackageDescription: 8-Pin Standard Small Outline Package, Body 3.9 x 4.9 mm, Pitch 1.27 mm; Supplier 1: Digi-Key; Supplier Part Number 1: AD8029ARZ-REEL-ND; Mounting Technology: Surface Mount; Code_JEDEC: MS-012-AA; ComponentLink1Description: Manufacturer URL; ComponentLink1URL: http://www.analog.com/en/index.html; ComponentLink2Description: Datasheet; ComponentLink2URL: http://www.analog.com/static/imported-files/data_sheets/AD8029_8030_8040.pdf; ComponentLink3Description: Package Specification; ComponentLink3URL: http://www.analog.com/static/imported-files/packages/PKG_PDF/SOIC_Narrow%20(R)/R_8.pdf
footprint ADI-R-8_N (SOIC, 8-Leads, Body 4.9x3.9mm, Pitch 1.27mm, IPC Medium Density)
footprint ADI-R-8_L (SOIC, 8-Leads, Body 4.9x3.9mm, Pitch 1.27mm, IPC High Density)
footprint ADI-R-8_M (SOIC, 8-Leads, Body 4.9x3.9mm, Pitch 1.27mm, IPC Low Density)
pins: 1 NC, 2 -IN (in), 3 +IN (in), 4 -VS (power), 5 NC, 6 VOUT (out), 7 +VS (power), 8 ~{DISABLE} (in)

## AD8029ARZ-REEL7
designator U?
Single Channel RRIO Operational Amplifier, 125 MHz BW, 62 V/us SR, Industrial, 8-pin SOIC (R-8), Reel; Generic Part Number: AD8029; Manufacturer: Analog Devices; PartNumber: AD8029ARZ-REEL7; Amplifiers Per Package: 1; Input Bias Current: 700nA; Input Offset Voltage: 1.6mV; Iq/Amp: 1.5mA; Slew Rate: 62V/us; Small Signal Bandwidth: 125MHz; V Span Max: 12V; V Span Min: 2.7V; DatasheetVersion: Rev. B; PackageVersion: 060506-A; PackageReference: R-8; PackageDescription: 8-Pin Standard Small Outline Package, Body 3.9 x 4.9 mm, Pitch 1.27 mm; Supplier 1: Digi-Key; Supplier Part Number 1: AD8029ARZ-REEL7-ND; Mounting Technology: Surface Mount; Code_JEDEC: MS-012-AA; ComponentLink1Description: Manufacturer URL; ComponentLink1URL: http://www.analog.com/en/index.html; ComponentLink2Description: Datasheet; ComponentLink2URL: http://www.analog.com/static/imported-files/data_sheets/AD8029_8030_8040.pdf; ComponentLink3Description: Package Specification; ComponentLink3URL: http://www.analog.com/static/imported-files/packages/PKG_PDF/SOIC_Narrow%20(R)/R_8.pdf
footprint ADI-R-8_N (SOIC, 8-Leads, Body 4.9x3.9mm, Pitch 1.27mm, IPC Medium Density)
footprint ADI-R-8_L (SOIC, 8-Leads, Body 4.9x3.9mm, Pitch 1.27mm, IPC High Density)
footprint ADI-R-8_M (SOIC, 8-Leads, Body 4.9x3.9mm, Pitch 1.27mm, IPC Low Density)
pins: 1 NC, 2 -IN (in), 3 +IN (in), 4 -VS (power), 5 NC, 6 VOUT (out), 7 +VS (power), 8 ~{DISABLE} (in)

## AD8030AR
designator U?
Double Channel RRIO Operational Amplifier, 125 MHz BW, 62 V/us SR, Industrial, 8-pin SOIC (R-8), Tube; Generic Part Number: AD8030; Manufacturer: Analog Devices; PartNumber: AD8030AR; Amplifiers Per Package: 2; Input Bias Current: 700nA; Input Offset Voltage: 1.6mV; Iq/Amp: 1.5mA; Slew Rate: 62V/us; Small Signal Bandwidth: 125MHz; V Span Max: 12V; V Span Min: 2.7V; DatasheetVersion: Rev. B; PackageVersion: 060506-A; PackageReference: R-8; PackageDescription: 8-Pin Standard Small Outline Package, Body 3.9 x 4.9 mm, Pitch 1.27 mm; Supplier 1: Digi-Key; Supplier Part Number 1: AD8030AR-ND; Mounting Technology: Surface Mount; Code_JEDEC: MS-012-AA; ComponentLink1Description: Manufacturer URL; ComponentLink1URL: http://www.analog.com/en/index.html; ComponentLink2Description: Datasheet; ComponentLink2URL: http://www.analog.com/static/imported-files/data_sheets/AD8029_8030_8040.pdf; ComponentLink3Description: Package Specification; ComponentLink3URL: http://www.analog.com/static/imported-files/packages/PKG_PDF/SOIC_Narrow%20(R)/R_8.pdf
footprint ADI-R-8_N (SOIC, 8-Leads, Body 4.9x3.9mm, Pitch 1.27mm, IPC Medium Density)
footprint ADI-R-8_L (SOIC, 8-Leads, Body 4.9x3.9mm, Pitch 1.27mm, IPC High Density)
footprint ADI-R-8_M (SOIC, 8-Leads, Body 4.9x3.9mm, Pitch 1.27mm, IPC Low Density)
pins on every part: 4 -VS (power), 8 +VS (power)
part A pins: 1 VOUT 1 (out), 2 -IN 1 (in), 3 +IN 1 (in)
part B pins: 5 +IN 2 (in), 6 -IN 2 (in), 7 VOUT 2 (out)

## AD8030ARJZ-R2
designator U?
Double Channel RRIO Operational Amplifier, 125 MHz BW, 62 V/us SR, Industrial, 8-pin SOT23 (RJ-8), Reel; Generic Part Number: AD8030; Manufacturer: Analog Devices; PartNumber: AD8030ARJZ-R2; Amplifiers Per Package: 2; Input Bias Current: 700nA; Input Offset Voltage: 1.6mV; Iq/Amp: 1.5mA; Slew Rate: 62V/us; Small Signal Bandwidth: 125MHz; V Span Max: 12V; V Span Min: 2.7V; DatasheetVersion: Rev. B; PackageVersion: 121608-A; PackageReference: RJ-8; PackageDescription: 8-Pin Small Outline Transistor Package, Body 2.9 x 1.6 mm, Pitch 0.65 mm; Mounting Technology: Surface Mount; Code_JEDEC: MO-178-BA; ComponentLink1Description: Manufacturer URL; ComponentLink1URL: http://www.analog.com/en/index.html; ComponentLink2Description: Datasheet; ComponentLink2URL: http://www.analog.com/static/imported-files/data_sheets/AD8029_8030_8040.pdf; ComponentLink3Description: Package Specification; ComponentLink3URL: http://www.analog.com/static/imported-files/packages/PKG_PDF/SOT-23(RJ)/RJ_8.pdf
footprint ADI-RJ-8_V (SOT23, 8-Leads, Body 2.9x1.6mm, Pitch 0.65mm)
pins on every part: 4 -VS (power), 8 +VS (power)
part A pins: 1 VOUT 1 (out), 2 -IN 1 (in), 3 +IN 1 (in)
part B pins: 5 +IN 2 (in), 6 -IN 2 (in), 7 VOUT 2 (out)

## AD8030ARJZ-REEL
designator U?
Double Channel RRIO Operational Amplifier, 125 MHz BW, 62 V/us SR, Industrial, 8-pin SOT23 (RJ-8), Reel; Generic Part Number: AD8030; Manufacturer: Analog Devices; PartNumber: AD8030ARJZ-REEL; Amplifiers Per Package: 2; Input Bias Current: 700nA; Input Offset Voltage: 1.6mV; Iq/Amp: 1.5mA; Slew Rate: 62V/us; Small Signal Bandwidth: 125MHz; V Span Max: 12V; V Span Min: 2.7V; DatasheetVersion: Rev. B; PackageVersion: 121608-A; PackageReference: RJ-8; PackageDescription: 8-Pin Small Outline Transistor Package, Body 2.9 x 1.6 mm, Pitch 0.65 mm; Supplier 1: Digi-Key; Supplier Part Number 1: AD8030ARJZ-REEL-ND; Supplier 2: Newark; Supplier Part Number 2: 59K6226; Mounting Technology: Surface Mount; Code_JEDEC: MO-178-BA; ComponentLink1Description: Manufacturer URL; ComponentLink1URL: http://www.analog.com/en/index.html; ComponentLink2Description: Datasheet; ComponentLink2URL: http://www.analog.com/static/imported-files/data_sheets/AD8029_8030_8040.pdf; ComponentLink3Description: Package Specification; ComponentLink3URL: http://www.analog.com/static/imported-files/packages/PKG_PDF/SOT-23(RJ)/RJ_8.pdf
footprint ADI-RJ-8_V (SOT23, 8-Leads, Body 2.9x1.6mm, Pitch 0.65mm)
pins on every part: 4 -VS (power), 8 +VS (power)
part A pins: 1 VOUT 1 (out), 2 -IN 1 (in), 3 +IN 1 (in)
part B pins: 5 +IN 2 (in), 6 -IN 2 (in), 7 VOUT 2 (out)

## AD8030ARJZ-REEL7
designator U?
Double Channel RRIO Operational Amplifier, 125 MHz BW, 62 V/us SR, Industrial, 8-pin SOT23 (RJ-8), Reel; Generic Part Number: AD8030; Manufacturer: Analog Devices; PartNumber: AD8030ARJZ-REEL7; Amplifiers Per Package: 2; Input Bias Current: 700nA; Input Offset Voltage: 1.6mV; Iq/Amp: 1.5mA; Slew Rate: 62V/us; Small Signal Bandwidth: 125MHz; V Span Max: 12V; V Span Min: 2.7V; DatasheetVersion: Rev. B; PackageVersion: 121608-A; PackageReference: RJ-8; PackageDescription: 8-Pin Small Outline Transistor Package, Body 2.9 x 1.6 mm, Pitch 0.65 mm; Supplier 1: Digi-Key; Supplier Part Number 1: AD8030ARJZ-REEL7TR-ND; Supplier 2: Digi-Key; Supplier Part Number 2: AD8030ARJZ-REEL7CT-ND; Supplier 3: Digi-Key; Supplier Part Number 3: AD8030ARJZ-REEL7DKR-ND; Supplier 4: Farnell; Supplier Part Number 4: 2102502; Supplier 5: Newark; Supplier Part Number 5: 19M8874; Mounting Technology: Surface Mount; Code_JEDEC: MO-178-BA; ComponentLink1Description: Manufacturer URL; ComponentLink1URL: http://www.analog.com/en/index.html; ComponentLink2Description: Datasheet; ComponentLink2URL: http://www.analog.com/static/imported-files/data_sheets/AD8029_8030_8040.pdf; ComponentLink3Description: Package Specification; ComponentLink3URL: http://www.analog.com/static/imported-files/packages/PKG_PDF/SOT-23(RJ)/RJ_8.pdf
footprint ADI-RJ-8_V (SOT23, 8-Leads, Body 2.9x1.6mm, Pitch 0.65mm)
pins on every part: 4 -VS (power), 8 +VS (power)
part A pins: 1 VOUT 1 (out), 2 -IN 1 (in), 3 +IN 1 (in)
part B pins: 5 +IN 2 (in), 6 -IN 2 (in), 7 VOUT 2 (out)

## AD8030ARZ
designator U?
Double Channel RRIO Operational Amplifier, 125 MHz BW, 62 V/us SR, Industrial, 8-pin SOIC (R-8), Tube; Generic Part Number: AD8030; Manufacturer: Analog Devices; PartNumber: AD8030ARZ; Amplifiers Per Package: 2; Input Bias Current: 700nA; Input Offset Voltage: 1.6mV; Iq/Amp: 1.5mA; Slew Rate: 62V/us; Small Signal Bandwidth: 125MHz; V Span Max: 12V; V Span Min: 2.7V; DatasheetVersion: Rev. B; PackageVersion: 060506-A; PackageReference: R-8; PackageDescription: 8-Pin Standard Small Outline Package, Body 3.9 x 4.9 mm, Pitch 1.27 mm; Supplier 1: Digi-Key; Supplier Part Number 1: AD8030ARZ-ND; Supplier 2: Farnell; Supplier Part Number 2: 1558391; Supplier 3: Newark; Supplier Part Number 3: 19M0916; Mounting Technology: Surface Mount; Code_JEDEC: MS-012-AA; ComponentLink1Description: Manufacturer URL; ComponentLink1URL: http://www.analog.com/en/index.html; ComponentLink2Description: Datasheet; ComponentLink2URL: http://www.analog.com/static/imported-files/data_sheets/AD8029_8030_8040.pdf; ComponentLink3Description: Package Specification; ComponentLink3URL: http://www.analog.com/static/imported-files/packages/PKG_PDF/SOIC_Narrow%20(R)/R_8.pdf
footprint ADI-R-8_N (SOIC, 8-Leads, Body 4.9x3.9mm, Pitch 1.27mm, IPC Medium Density)
footprint ADI-R-8_L (SOIC, 8-Leads, Body 4.9x3.9mm, Pitch 1.27mm, IPC High Density)
footprint ADI-R-8_M (SOIC, 8-Leads, Body 4.9x3.9mm, Pitch 1.27mm, IPC Low Density)
pins on every part: 4 -VS (power), 8 +VS (power)
part A pins: 1 VOUT 1 (out), 2 -IN 1 (in), 3 +IN 1 (in)
part B pins: 5 +IN 2 (in), 6 -IN 2 (in), 7 VOUT 2 (out)

## AD8030ARZ-REEL
designator U?
Double Channel RRIO Operational Amplifier, 125 MHz BW, 62 V/us SR, Industrial, 8-pin SOIC (R-8), Reel; Generic Part Number: AD8030; Manufacturer: Analog Devices; PartNumber: AD8030ARZ-REEL; Amplifiers Per Package: 2; Input Bias Current: 700nA; Input Offset Voltage: 1.6mV; Iq/Amp: 1.5mA; Slew Rate: 62V/us; Small Signal Bandwidth: 125MHz; V Span Max: 12V; V Span Min: 2.7V; DatasheetVersion: Rev. B; PackageVersion: 060506-A; PackageReference: R-8; PackageDescription: 8-Pin Standard Small Outline Package, Body 3.9 x 4.9 mm, Pitch 1.27 mm; Supplier 1: Digi-Key; Supplier Part Number 1: AD8030ARZ-REEL-ND; Mounting Technology: Surface Mount; Code_JEDEC: MS-012-AA; ComponentLink1Description: Manufacturer URL; ComponentLink1URL: http://www.analog.com/en/index.html; ComponentLink2Description: Datasheet; ComponentLink2URL: http://www.analog.com/static/imported-files/data_sheets/AD8029_8030_8040.pdf; ComponentLink3Description: Package Specification; ComponentLink3URL: http://www.analog.com/static/imported-files/packages/PKG_PDF/SOIC_Narrow%20(R)/R_8.pdf
footprint ADI-R-8_N (SOIC, 8-Leads, Body 4.9x3.9mm, Pitch 1.27mm, IPC Medium Density)
footprint ADI-R-8_L (SOIC, 8-Leads, Body 4.9x3.9mm, Pitch 1.27mm, IPC High Density)
footprint ADI-R-8_M (SOIC, 8-Leads, Body 4.9x3.9mm, Pitch 1.27mm, IPC Low Density)
pins on every part: 4 -VS (power), 8 +VS (power)
part A pins: 1 VOUT 1 (out), 2 -IN 1 (in), 3 +IN 1 (in)
part B pins: 5 +IN 2 (in), 6 -IN 2 (in), 7 VOUT 2 (out)

## AD8030ARZ-REEL7
designator U?
Double Channel RRIO Operational Amplifier, 125 MHz BW, 62 V/us SR, Industrial, 8-pin SOIC (R-8), Reel; Generic Part Number: AD8030; Manufacturer: Analog Devices; PartNumber: AD8030ARZ-REEL7; Amplifiers Per Package: 2; Input Bias Current: 700nA; Input Offset Voltage: 1.6mV; Iq/Amp: 1.5mA; Slew Rate: 62V/us; Small Signal Bandwidth: 125MHz; V Span Max: 12V; V Span Min: 2.7V; DatasheetVersion: Rev. B; PackageVersion: 060506-A; PackageReference: R-8; PackageDescription: 8-Pin Standard Small Outline Package, Body 3.9 x 4.9 mm, Pitch 1.27 mm; Supplier 1: Digi-Key; Supplier Part Number 1: AD8030ARZ-REEL7TR-ND; Supplier 2: Digi-Key; Supplier Part Number 2: AD8030ARZ-REEL7CT-ND; Supplier 3: Digi-Key; Supplier Part Number 3: AD8030ARZ-REEL7DKR-ND; Mounting Technology: Surface Mount; Code_JEDEC: MS-012-AA; ComponentLink1Description: Manufacturer URL; ComponentLink1URL: http://www.analog.com/en/index.html; ComponentLink2Description: Datasheet; ComponentLink2URL: http://www.analog.com/static/imported-files/data_sheets/AD8029_8030_8040.pdf; ComponentLink3Description: Package Specification; ComponentLink3URL: http://www.analog.com/static/imported-files/packages/PKG_PDF/SOIC_Narrow%20(R)/R_8.pdf
footprint ADI-R-8_N (SOIC, 8-Leads, Body 4.9x3.9mm, Pitch 1.27mm, IPC Medium Density)
footprint ADI-R-8_L (SOIC, 8-Leads, Body 4.9x3.9mm, Pitch 1.27mm, IPC High Density)
footprint ADI-R-8_M (SOIC, 8-Leads, Body 4.9x3.9mm, Pitch 1.27mm, IPC Low Density)
pins on every part: 4 -VS (power), 8 +VS (power)
part A pins: 1 VOUT 1 (out), 2 -IN 1 (in), 3 +IN 1 (in)
part B pins: 5 +IN 2 (in), 6 -IN 2 (in), 7 VOUT 2 (out)

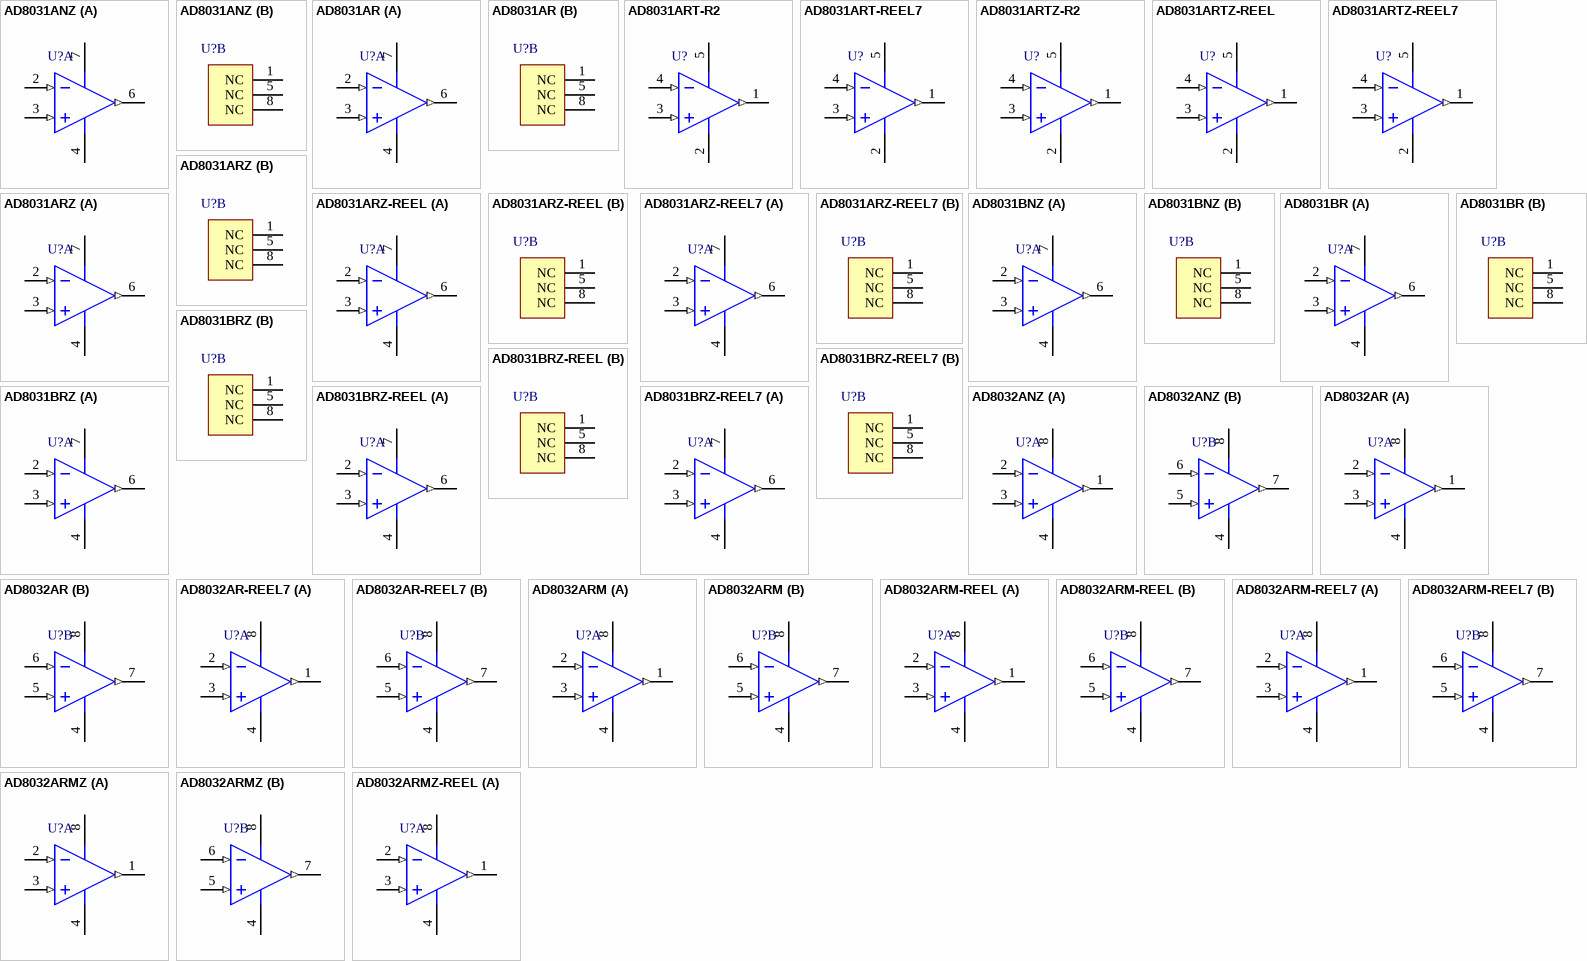
[diagram p23: symbols AD8031ANZ to AD8032ARMZ-REEL]

## AD8031ANZ
designator U?
Single Channel RRIO Operational Amplifier, 80 MHz BW, 35 V/us SR, Industrial, 8-pin DIP (N-8), Tube; Generic Part Number: AD8031; Manufacturer: Analog Devices; PartNumber: AD8031ANZ; Amplifiers Per Package: 1; Input Bias Current: 450nA; Input Offset Voltage: 1mV; Iq/Amp: 900uA; Slew Rate: 35V/us; Small Signal Bandwidth: 80MHz; V Span Max: 12V; V Span Min: 2.7V; DatasheetVersion: Rev. D; PackageVersion: 070606-A; PackageReference: N-8; PackageDescription: 8-Pin Plastic Dual In-Line Package, Row spacing 7.62 mm, Pitch 2.54 mm; Supplier 1: Digi-Key; Supplier Part Number 1: AD8031ANZ-ND; Supplier 2: Farnell; Supplier Part Number 2: 1438574; Supplier 3: Newark; Supplier Part Number 3: 59K6231; Packing: Tube; Mounting Technology: Through Hole; Code_JEDEC: MS-001; ComponentLink1Description: Manufacturer URL; ComponentLink1URL: http://www.analog.com/en/index.html; ComponentLink2Description: Datasheet; ComponentLink2URL: http://www.analog.com/static/imported-files/data_sheets/AD8031_8032.pdf; ComponentLink3Description: Package Specification; ComponentLink3URL: http:/www.analog.com/static/imported-files/packages/PKG_PDF/PDIP(N)/N_8.pdf; ComponentLink4Description: Reference Circuit; ComponentLink4URL: http://www.analog.com/en/all-operational-amplifiers-op-amps/operational-amplifiers-op-amps/ad8031/products/product.html#product-recommendations
footprint ADI-N-8 (DIP, 8-Leads, Body 9.59x6.6mm, Pitch 2.54mm)
part A pins: 2 -IN (in), 3 +IN (in), 4 -VS (power), 6 OUT (out), 7 +VS (power)
part B pins: 1 NC, 5 NC, 8 NC

## AD8031AR
designator U?
Single Channel RRIO Operational Amplifier, 80 MHz BW, 35 V/us SR, Industrial, 8-pin SOIC (R-8), Tube; Generic Part Number: AD8031; Manufacturer: Analog Devices; PartNumber: AD8031AR; Amplifiers Per Package: 1; Input Bias Current: 450nA; Input Offset Voltage: 1mV; Iq/Amp: 900uA; Slew Rate: 35V/us; Small Signal Bandwidth: 80MHz; V Span Max: 12V; V Span Min: 2.7V; DatasheetVersion: Rev. D; PackageVersion: 060506-A; PackageReference: R-8; PackageDescription: 8-Pin Standard Small Outline Package, Body 3.9 x 4.9 mm, Pitch 1.27 mm; Supplier 1: Digi-Key; Supplier Part Number 1: AD8031AR-ND; Packing: Tube; Mounting Technology: Surface Mount; Code_JEDEC: MS-012-AA; ComponentLink1Description: Manufacturer URL; ComponentLink1URL: http://www.analog.com/en/index.html; ComponentLink2Description: Datasheet; ComponentLink2URL: http://www.analog.com/static/imported-files/data_sheets/AD8031_8032.pdf; ComponentLink3Description: Package Specification; ComponentLink3URL: http://www.analog.com/static/imported-files/packages/PKG_PDF/SOIC_Narrow%20(R)/R_8.pdf; ComponentLink4Description: Reference Circuit; ComponentLink4URL: http://www.analog.com/en/all-operational-amplifiers-op-amps/operational-amplifiers-op-amps/ad8031/products/product.html#product-recommendations
footprint ADI-R-8_N (SOIC, 8-Leads, Body 4.9x3.9mm, Pitch 1.27mm, IPC Medium Density)
footprint ADI-R-8_L (SOIC, 8-Leads, Body 4.9x3.9mm, Pitch 1.27mm, IPC High Density)
footprint ADI-R-8_M (SOIC, 8-Leads, Body 4.9x3.9mm, Pitch 1.27mm, IPC Low Density)
part A pins: 2 -IN (in), 3 +IN (in), 4 -VS (power), 6 OUT (out), 7 +VS (power)
part B pins: 1 NC, 5 NC, 8 NC

## AD8031ART-R2
designator U?
Single Channel RRIO Operational Amplifier, 80 MHz BW, 35 V/us SR, Industrial, 5-pin SOT23 (RJ-5), Reel; Generic Part Number: AD8031; Manufacturer: Analog Devices; PartNumber: AD8031ART-R2; Amplifiers Per Package: 1; Input Bias Current: 450nA; Input Offset Voltage: 1mV; Iq/Amp: 900uA; Slew Rate: 35V/us; Small Signal Bandwidth: 80MHz; V Span Max: 12V; V Span Min: 2.7V; DatasheetVersion: Rev. D; PackageVersion: 121608-A; PackageReference: RJ-5; PackageDescription: 5-Pin Small Outline Transistor Package, Body 2.9 x 1.6 mm, Pitch 0.95 mm; Supplier 1: Newark; Supplier Part Number 1: 61H4955; Packing: Reel; Mounting Technology: Surface Mount; Code_JEDEC: MO-178-AA; ComponentLink1Description: Manufacturer URL; ComponentLink1URL: http://www.analog.com/en/index.html; ComponentLink2Description: Datasheet; ComponentLink2URL: http://www.analog.com/static/imported-files/data_sheets/AD8031_8032.pdf; ComponentLink3Description: Package Specification; ComponentLink3URL: http://www.analog.com/static/imported-files/packages/PKG_PDF/SOT-23(RJ)/RJ_5.pdf; ComponentLink4Description: Reference Circuit; ComponentLink4URL: http://www.analog.com/en/all-operational-amplifiers-op-amps/operational-amplifiers-op-amps/ad8031/products/product.html#product-recommendations
footprint ADI-RJ-5_N (SOT-23, 5-Leads, Body 2.9x1.6mm, Pitch 0.95mm, IPC Medium Density)
footprint ADI-RJ-5_L (SOT-23, 5-Leads, Body 2.9x1.6mm, Pitch 0.95mm, IPC High Density)
footprint ADI-RJ-5_M (SOT-23, 5-Leads, Body 2.9x1.6mm, Pitch 0.95mm, IPC Low Density)
pins: 1 VOUT (out), 2 -VS (power), 3 +IN (in), 4 -IN (in), 5 +VS (power)

## AD8031ART-REEL7
designator U?
Single Channel RRIO Operational Amplifier, 80 MHz BW, 35 V/us SR, Industrial, 5-pin SOT23 (RJ-5), Reel; Generic Part Number: AD8031; Manufacturer: Analog Devices; PartNumber: AD8031ART-REEL7; Amplifiers Per Package: 1; Input Bias Current: 450nA; Input Offset Voltage: 1mV; Iq/Amp: 900uA; Slew Rate: 35V/us; Small Signal Bandwidth: 80MHz; V Span Max: 12V; V Span Min: 2.7V; DatasheetVersion: Rev. D; PackageVersion: 121608-A; PackageReference: RJ-5; PackageDescription: 5-Pin Small Outline Transistor Package, Body 2.9 x 1.6 mm, Pitch 0.95 mm; Supplier 1: Digi-Key; Supplier Part Number 1: AD8031ART-REEL7TR-ND; Supplier 2: Digi-Key; Supplier Part Number 2: AD8031ART-REEL7CT-ND; Supplier 3: Newark; Supplier Part Number 3: 09B6372; Packing: Reel; Mounting Technology: Surface Mount; Code_JEDEC: MO-178-AA; ComponentLink1Description: Manufacturer URL; ComponentLink1URL: http://www.analog.com/en/index.html; ComponentLink2Description: Datasheet; ComponentLink2URL: http://www.analog.com/static/imported-files/data_sheets/AD8031_8032.pdf; ComponentLink3Description: Package Specification; ComponentLink3URL: http://www.analog.com/static/imported-files/packages/PKG_PDF/SOT-23(RJ)/RJ_5.pdf; ComponentLink4Description: Reference Circuit; ComponentLink4URL: http://www.analog.com/en/all-operational-amplifiers-op-amps/operational-amplifiers-op-amps/ad8031/products/product.html#product-recommendations
footprint ADI-RJ-5_N (SOT-23, 5-Leads, Body 2.9x1.6mm, Pitch 0.95mm, IPC Medium Density)
footprint ADI-RJ-5_L (SOT-23, 5-Leads, Body 2.9x1.6mm, Pitch 0.95mm, IPC High Density)
footprint ADI-RJ-5_M (SOT-23, 5-Leads, Body 2.9x1.6mm, Pitch 0.95mm, IPC Low Density)
pins: 1 VOUT (out), 2 -VS (power), 3 +IN (in), 4 -IN (in), 5 +VS (power)